# Altium schematic symbol library SDR_wt_SchLib.SchLib: 46 symbols
Pins are listed as number, name and electrical type; pins without a type are passive.

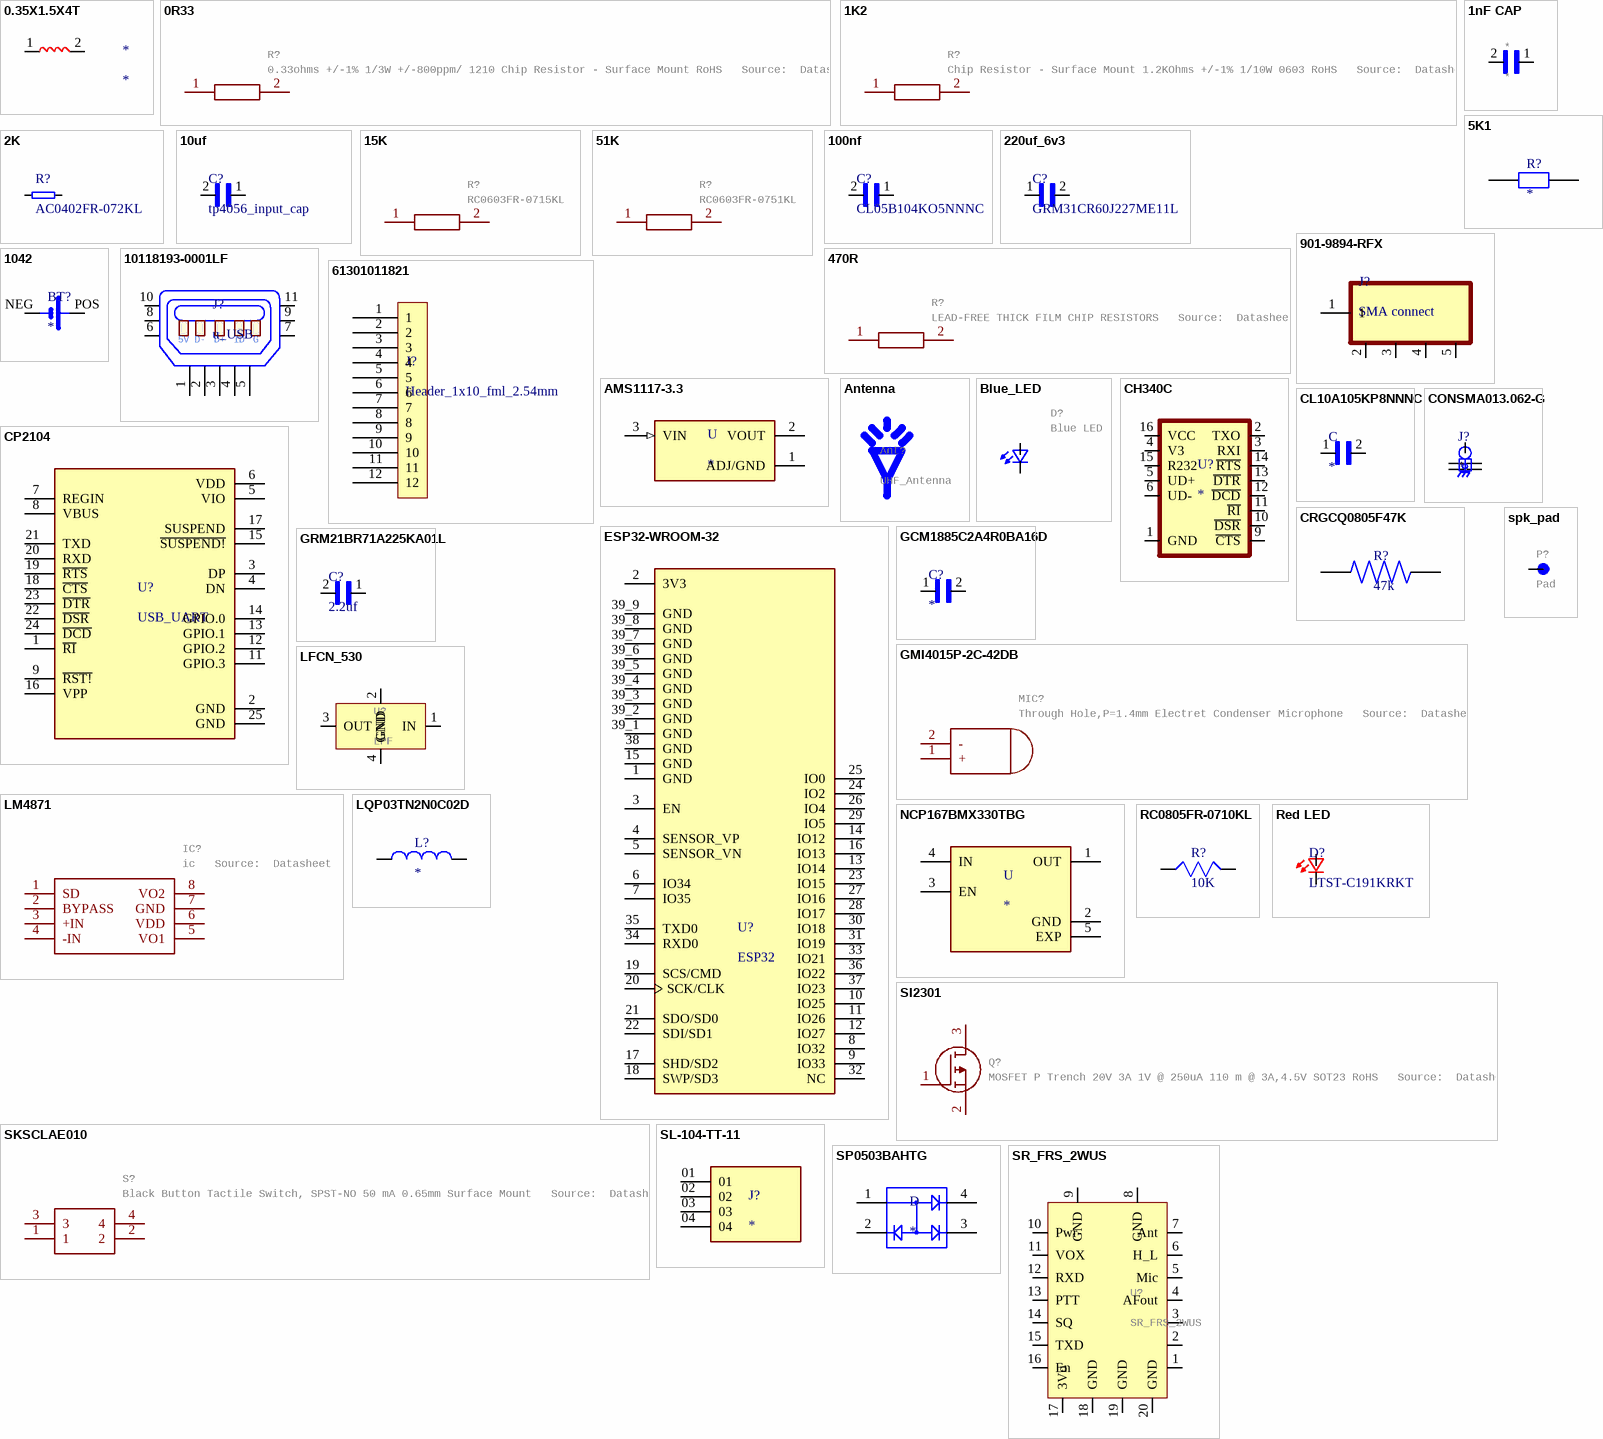
[diagram p0: symbols 0.35X1.5X4T to SR_FRS_2WUS]

## 0.35X1.5X4T
designator *
footprint 0.35X1.5X4T
pins: 1, 2

## 0R33
designator R?, comment 0.33ohms +/-1% 1/3W +/-800ppm/ 1210 Chip Resistor - Surface Mount RoHS   Source:  Datasheet
Manufacturer_Name: UNI-ROYAL(Uniroyal Elec); GateName_1: G$1; SymbolName_1: 1210W2F330LT5E; LibraryName: 1210W2F330LT5E; DeviceSetName: 1210W2F330LT5E; Package: RESC3126X65N; Manufacturer_Part_Number: 1210W2F330LT5E; Height: 0.65mm; LCSC Part #: C95211
footprint RESC3126X65N
pins: 1, 2

## 1K2
designator R?, comment Chip Resistor - Surface Mount 1.2KOhms +/-1% 1/10W 0603 RoHS   Source:  Datasheet
0603WAF1201T5E; Manufacturer_Name: UNI-ROYAL(Uniroyal Elec); GateName_1: G$1; SymbolName_1: 0603WAF1201T5E; LibraryName: 0603WAF1201T5E; DeviceSetName: 0603WAF1201T5E; Package: RESC1608X55N; Manufacturer_Part_Number: 0603WAF1201T5E; Height: 0.55mm; LCSC Part #: C22765
footprint RESC1608X55N 1K2
pins: 1, 2

## 1nF CAP
designator *
footprint 1nF CAP
pins: 1, 2

## 2K
designator R?, comment AC0402FR-072KL
AC Series 0402 0.063 W 2 kOhm Â±1% Â±100 ppm/Â°C SMT Thick Film Chip Resistor; Package: None; Price: None; Value: *; MP: AC0402FR-072KL; Availability: Unavailable; LCSC Part #: C144770
footprint RESC1005X40N
pins: 1, 2

## 5K1
designator R?
RES, THICK FILM, 5K1, 5%, 0.0625W, 0402; MP: RC0402JR-075K1L; Package: None; Price: None; Value: *; Availability: Unavailable; LCSC Part #: C105873
footprint RESC1005X40N - duplicate
pins: 1, 2

## 10uf
designator C?, comment tp4056_input_cap
10ÂµF Â±10% 10V Ceramic Capacitor X5R 0603 _1608 Metric_; MP: CL10A106KP8NNNC; MF: Samsung; SnapEDA_Link: https://www.snapeda.com/parts/CL10A106KP8NNNC/Samsung/view-part/3598152/?ref=snap; Price: None; Package: 0603 Samsung; Availability: Unavailable; Value: *; LCSC Part #: C19702
footprint CAPC1608X90N
pins: 1, 2

## 15K
designator R?, comment RC0603FR-0715KL
Manufacturer_Name: YAGEO (PHYCOMP); GateName_1: G$1; SymbolName_1: RC0603FR-0715KL; LibraryName: RC0603FR-0715KL; DeviceSetName: RC0603FR-0715KL; Package: RESC1608X55N; Manufacturer_Part_Number: RC0603FR-0715KL; Mouser_Part_Number: 603-RC0603FR-0715KL; Mouser_Price-Stock: https://www.mouser.co.uk/ProductDetail/Yageo/RC0603FR-0715KL?qs=VU8sRB4EgwBhsSCK0A%252BW%252Bw%3D%3D; Height: 0.55mm; LCSC Part #: C114661
footprint RESC1608X55N 15k
pins: 1, 2

## 51K
designator R?, comment RC0603FR-0751KL
Manufacturer_Name: YAGEO (PHYCOMP); GateName_1: G$1; SymbolName_1: RC0603FR-0715KL; LibraryName: RC0603FR-0715KL; DeviceSetName: RC0603FR-0715KL; Package: RESC1608X55N; Manufacturer_Part_Number: RC0603FR-0715KL; Mouser_Part_Number: 603-RC0603FR-0715KL; Mouser_Price-Stock: https://www.mouser.co.uk/ProductDetail/Yageo/RC0603FR-0715KL?qs=VU8sRB4EgwBhsSCK0A%252BW%252Bw%3D%3D; Height: 0.55mm; LCSC Part #: C107231
footprint RESC1608X55N - 51k
pins: 1, 2

## 100nf
designator C?, comment CL05B104KO5NNNC
0.1ÂµF Â±10% 16V Ceramic Capacitor X7R 0402 _1005 Metric_; MF: Samsung Electro-Mechanics; MP: CL05B104KO5NNNC; Price: None; SnapEDA_Link: https://www.snapeda.com/parts/CL05B104KO5NNNC/Samsung%20Electro-Mechanics/view-part/3598311/?ref=snap; Package: 0402 Samsung; Value: *; Availability: Unavailable; LCSC Part #: C1525
footprint CAPC1005X55N
pins: 1, 2

## 220uf_6v3
designator C?, comment GRM31CR60J227ME11L
SMD Multilayer Ceramic Capacitor, GRM Series, 220 F, 20%, X5R, 6.3 V, 1206 [3216 Metric]; MF: Murata Electronics; Digi-Key_Part_Number: 490-13970-1-ND; Package: 3216 Murata; MP: GRM31CR60J227ME11L; SnapEDA_Link: https://www.snapeda.com/parts/GRM31CR60J227ME11L/Murata%20Electronics%20North%20America/view-part/1756709/?ref=snap; Purchase-URL: https://pricing.snapeda.com/search/part/GRM31CR60J227ME11L/?ref=eda; Check_prices: https://www.snapeda.com/parts/GRM31CR60J227ME11L/Murata%20Electronics%20North%20America/view-part/1756709/?ref=eda; Value: *
footprint 220uf_3v3
pins: 1, 2

## 470R
designator R?, comment LEAD-FREE THICK FILM CHIP RESISTORS   Source:  Datasheet
Manufacturer_Name: Uniroyal Elec; GateName_1: G$1; SymbolName_1: 0402WGF4700TCE; LibraryName: 0402WGF4700TCE; DeviceSetName: 0402WGF4700TCE; Package: RESC1005X40N; Manufacturer_Part_Number: 0402WGF4700TCE; Height: 0.4mm; LCSC Part #: C25117
footprint RESC1005X40N
pins: 1, 2

## 901-9894-RFX
designator J?, comment SMA connect
SMA Connector Plug, Male Pin 50Ohm Through Hole, Right Angle Solder; MP: 901-9894-RFX; MF: Amphenol RF; Package: None; SnapEDA_Link: https://www.snapeda.com/parts/901-9894-RFX/Amphenol%20RF%20Division/view-part/34657/?ref=snap; Price: None; Value: *; Availability: Unavailable
footprint AMPHENOL_901-9894-RFX
pins: 1, 2, 3, 4, 5

## 1042
designator BT?
RF EMI Absorbing Sheet Q-ZorbÂ® Silicone Rubber Non-Conductive, Single Sided 24.000 _609.60mm_ X 24.000 _609.60mm_ X 0.094 _2.40mm_; MF: Laird Technologies; MP: 1042; Package: 0402 Laird Technologies; Value: *; Price: None; SnapEDA_Link: https://www.snapeda.com/parts/1042/Laird%20Technologies%20EMI/view-part/238870/?ref=snap; Availability: Unavailable; LCSC Part #: *
footprint BAT_1042
pins: NEG, POS

## 10118193-0001LF
designator J?, comment u_USB
CONN USB MICRO B RECPT SMT R/A; Manufacturer: Amphenol FCI; Manufacturer Part Number: 10118193-0001LF; Number of Terminals/Pins: 5; Gender: Female; Connector Type: USB,Receptacle; Number of Ports: 1; Current Rating: 1.8A; Insulation Resistance: 1GR; Max Voltage Rating (AC): 100V; Pitch: 0.65mm; Supplier 1: Digi-Key; Supplier Part Number 1: 609-4616-1-ND; RoHS: Yes; Category: USB Connectors; Stock 1: 41546; Pricing 1: 1=0.48000, 10=0.45100, 25=0.38680, 50=0.32860, 100=0.31580, 250=0.28360, 500=0.27070 (USD); Mount: Surface Mount,Horizontal; Contact Plating: Gold; Contact Material: Copper Alloy; Color: Black; Housing Material: Polymer; Min Operating Temperature: -55°C; Max Operating Temperature: 85°C; Termination: Solder; Packaging: Tape and Reel; Number of Contacts: 5; Orientation: Right Angle; Package Quantity: 1200; Voltage Rating: 100V; Features: Shielded; Length: 7.86mm; Depth: 5.67mm; Radiation Hardening: No; Flammability Rating: UL94 V-0; ComponentLink1URL: https://datasheet.ciiva.com/851/10118193-851106.pdf?src-supplier=Digi-Key; ComponentLink1Description: https://datasheet.ciiva.com/851/10118193-851106.pdf?src-supplier=Digi-Key; ComponentLink2URL: https://datasheet.ciiva.com/26853/getdatasheetpartid-418618-26853893.pdf?src-supplier=Verical; ComponentLink2Description: https://datasheet.ciiva.com/26853/getdatasheetpartid-418618-26853893.pdf?src-supplier=Verical; ComponentLink3URL: https://datasheet.ciiva.com/4598/10118193ac-197151-4598799.pdf?src-supplier=Mouser; ComponentLink3Description: https://datasheet.ciiva.com/4598/10118193ac-197151-4598799.pdf?src-supplier=Mouser; ComponentLink4URL: https://datasheet.ciiva.com/14802/10118193-0001lf-webpage-14802386.pdf?src-supplier=Arrow+Electronics; ComponentLink4Description: https://datasheet.ciiva.com/14802/10118193-0001lf-webpage-14802386.pdf?src-supplier=Arrow+Electronics; ComponentLink5URL: https://datasheet.ciiva.com/851/10118193-851107.pdf?src-supplier=Digi-Key; ComponentLink5Description: https://datasheet.ciiva.com/851/10118193-851107.pdf?src-supplier=Digi-Key; ComponentLink6URL: https://datasheet.ciiva.com/851/10118193-851108.pdf?src-supplier=Digi-Key; ComponentLink6Description: https://datasheet.ciiva.com/851/10118193-851108.pdf?src-supplier=Digi-Key; ComponentLink7URL: https://datasheet.ciiva.com/14618/70236827-14618887.pdf?src-supplier=Allied+Electronics; ComponentLink7Description: https://datasheet.ciiva.com/14618/70236827-14618887.pdf?src-supplier=Allied+Electronics
footprint u_USB
pins: 1 14, 2 15, 3 16, 4 17, 5 18, 6 19, 7          20, 8          21, 9          22, 10          23, 11          24
text: 5V; D-; D+; ID; G

## 61301011821
designator J?, comment Header_1x10_fml_2.54mm  (no BOM)
WURTH ELEKTRONIK - 61301011821 - PCB Receptacle, Board-to-Board, 2.54 mm, 1 Rows, 10 Contacts, Through Hole Straight, WR-PHD Series; Manufacturer: Wurth Electronics; Current Rating: 3A; Voltage Rating: 250V; Number of Positions: 10; Insulation: Insulated; Insulation Resistance: 1GR; Connector Type: Header,Socket; Pitch: 2.54mm; Manufacturer Part Number: 61301011821; RoHS: Yes; Stock 1: 1388; Pricing 1: 1=0.65000, 10=0.64100, 50=0.59100, 100=0.54200, 320=0.49300 (USD); Mount: Through Hole; Contact Plating: Gold; Contact Material: Copper Alloy,Copper; Color: Black; Housing Material: PBT; Min Operating Temperature: -40°C; Max Operating Temperature: 125°C; Number of Rows: 1; Package Quantity: 320; Packaging: Tray; Contact Gender: Female; Termination: Through Hole; Gender: Receptacle; Number of Contacts: 10; Length: 25.9mm; Width: 25.9mm; Height: 8.5mm; REACH SVHC: Unknown; Flammability Rating: UL94 V-0; Lead Free: Lead Free; ComponentLink1URL: https://datasheet.ciiva.com/755/6130xx11821-755848.pdf?src-supplier=Digi-Key; ComponentLink1Description: https://datasheet.ciiva.com/755/6130xx11821-755848.pdf?src-supplier=Digi-Key; ComponentLink2URL: https://datasheet.ciiva.com/8043/1320173-8043339.pdf?src-supplier=Element14; ComponentLink2Description: https://datasheet.ciiva.com/8043/1320173-8043339.pdf?src-supplier=Element14; ComponentLink3URL: https://datasheet.ciiva.com/48686/001088188-da-01-en-wr-phd-buchsenleiste-61301011821-48686454.pdf?src-supplier=Conrad; ComponentLink3Description: https://datasheet.ciiva.com/48686/001088188-da-01-en-wr-phd-buchsenleiste-61301011821-48686454.pdf?src-supplier=Conrad; Category: Headers and Wire Housings; Supplier 1: Digi-Key; Supplier Part Number 1: 732-2859-ND
footprint Header_1x12_fml_2.54mm
pins: 1, 2, 3, 4, 5, 6, 7, 8, 9, 10, 11, 12

## AMS1117-3.3
designator U
Sot223/Pkg 1-Amp 3.3-Volt Low Drop Out Voltage Regulatator; MP: AMS1117-3.3; MF: Advanced Monolithic Systems; Price: None; Package: None; Value: *; Availability: Unavailable; SnapEDA_Link: https://www.snapeda.com/parts/AMS1117-3.3/Advanced%20Monolithic%20Systems/view-part/53450/?ref=snap
footprint SOT229P700X180-4N
pins: 1 ADJ/GND (power), 2 VOUT, 3 VIN (in)

## Antenna
designator Ant?, comment UHF_Antenna  (mechanical)
footprint Antenna

## Blue_LED
designator D?, comment Blue LED Indication - Discrete 2.8V 0603 (1608 Metric)   Source:  Datasheet
Manufacturer_Name: Everlight; Manufacturer_Part_Number: 19-217/BHC-ZL1M2RY/3T; GateName_1: G$1; SymbolName_1: 19-217_BHC-ZL1M2RY_3T; LibraryName: 19-217_BHC-ZL1M2RY_3T; DeviceSetName: 19-217_BHC-ZL1M2RY_3T; Package: 19217BHCZL1M2RY3T; Height: 0.45mm; LCSC Part #: C72041
footprint 19217BHCZL1M2RY3T
pins: 1 K2, 2 A2

## CH340C
designator U?
USB to serial chip CH340; MF: WCH; MP: CH340C; Package: Package; Check_prices: https://www.snapeda.com/parts/CH340C/WCH/view-part/5428851/?ref=eda; Value: *; Price: None; Availability: Unavailable; SnapEDA_Link: https://www.snapeda.com/parts/CH340C/WCH/view-part/5428851/?ref=snap
footprint SO016
pins: 1 GND, 2 TXO, 3 RXI, 4 V3, 5 UD+, 6 UD-, 9 ~{CTS}, 10 ~{DSR}, 11 ~{RI}, 12 ~{DCD}, 13 ~{DTR}, 14 ~{RTS}, 15 R232, 16 VCC

## CL10A105KP8NNNC
designator C
1ÂµF Â±10% 10V Ceramic Capacitor X5R 0603 _1608 Metric_; MF: Samsung Electro-Mechanics; MP: CL10A105KP8NNNC; Package: 0603 Samsung Electro-Mechanics; Value: *; Price: None; SnapEDA_Link: https://www.snapeda.com/parts/CL10A105KP8NNNC/Samsung%20Electro-Mechanics/view-part/2784099/?ref=snap; Availability: Unavailable
footprint CAPC1608X100N
pins: 1, 2

## CONSMA013.062-G
designator J?
SMA MALE EDGE MOUNT FOR 0.031" THICK BOARD; MP: CONSMA013.062-G; Availability: Unavailable; Price: None; Package: None; Value: *
footprint LINX_CONSMA013.062-G
pins: 1, S1 2, S2 2, S3 2, S4 2

## CP2104
designator U?, comment USB_UART
USB Bridge, USB to UART USB 2.0 UART Interface 24-QFN _4x4_; MF: Silicon Labs; MP: CP2104; Price: None; Availability: Unavailable; SnapEDA_Link: https://www.snapeda.com/parts/CP2104/Silicon%20Labs/view-part/135877/?ref=snap; Value: *; Package: QFN-24 Silicon Labs
footprint QFN50P400X400X80-25N
pins: 1 ~{RI}, 2 GND, 3 DP, 4 DN, 5 VIO, 6 VDD, 7 REGIN, 8 VBUS, 9 ~{RST!}, 11 GPIO.3, 12 GPIO.2, 13 GPIO.1, 14 GPIO.0, 15 ~{SUSPEND!}, 16 VPP, 17 SUSPEND, 18 ~{CTS}, 19 ~{RTS}, 20 RXD, 21 TXD, 22 ~{DSR}, 23 ~{DTR}, 24 ~{DCD}, 25 GND

## CRGCQ0805F47K
designator R?, comment 47k
Fixed Resistor CRGCQ 0805 47K 1%; MP: CRGCQ0805F47K; Package: None; Price: None; Value: *; Availability: Unavailable
footprint R0805_47K
pins: 1, 2

## ESP32-WROOM-32
designator U?, comment ESP32
SMD MODULE, ESP32-WROOM-32, ESP32-D0WDQ6; Manufacturer: Espressif Systems; Frequency: 2.5GHz; Data Rate: 150Mbps; Sensitivity: -98dBm; Operating Supply Voltage: 3.6V; Supplier 1: Digi-Key; Supplier Part Number 1: 1904-1010-1-ND; Manufacturer Part Number: ESP32-WROOM-32; RoHS: No; Category: RF Receivers, Transceivers; Pricing 1: 1=3.80000 (USD); Mount: Surface Mount; Case/Package: SMD/SMT; Weight: 0.088185oz; Min Operating Temperature: -40°C; Max Operating Temperature: 85°C; Packaging: Cut Tape; Package Quantity: 550; ComponentLink1URL: https://datasheet.ciiva.com/70828/esp32-wroom-32-datasheet-en-70828769.pdf?src-supplier=Digi-Key; ComponentLink1Description: https://datasheet.ciiva.com/70828/esp32-wroom-32-datasheet-en-70828769.pdf?src-supplier=Digi-Key; ComponentLink2URL: https://datasheet.ciiva.com/69725/esp32-datasheet-en-69725253.pdf?src-supplier=Digi-Key; ComponentLink2Description: https://datasheet.ciiva.com/69725/esp32-datasheet-en-69725253.pdf?src-supplier=Digi-Key
footprint ESP32 foot
pins: 1 GND (power), 2 3V3 (power), 3 EN, 4 SENSOR_VP, 5 SENSOR_VN, 6 IO34, 7 IO35, 8 IO32, 9 IO33, 10 IO25, 11 IO26, 12 IO27, 13 IO14, 14 IO12, 15 GND (power), 16 IO13, 17 SHD/SD2, 18 SWP/SD3, 19 SCS/CMD, 20 SCK/CLK, 21 SDO/SD0, 22 SDI/SD1, 23 IO15, 24 IO2, 25 IO0, 26 IO4, 27 IO16, 28 IO17, 29 IO5, 30 IO18, 31 IO19, 32 NC, 33 IO21, 34 RXD0, 35 TXD0, 36 IO22, 37 IO23, 38 GND (power), 39_1 GND (power), 39_2 GND (power), 39_3 GND (power), 39_4 GND (power), 39_5 GND (power), 39_6 GND (power), 39_7 GND (power), 39_8 GND (power), 39_9 GND (power)

## GCM1885C2A4R0BA16D
designator C?
SMD Capacitor C0G(EIA) with Capacitance: 4.0pF Tol. 0.1pF. Rated Voltage: 100Vdc; MP: GCM1885C2A4R0BA16D; Package: None; Price: None; Value: *; Availability: Unavailable
footprint CAPC1608X90N
pins: 1, 2

## GMI4015P-2C-42DB
designator MIC?, comment Through Hole,P=1.4mm Electret Condenser Microphone   Source:  Datasheet
Manufacturer_Name: INGHAi; GateName_1: G$1; SymbolName_1: GMI4015P-2C-42DB; LibraryName: GMI4015P-2C-42db; DeviceSetName: GMI4015P-2C-42DB; Package: GMI4015P2C42db; Manufacturer_Part_Number: GMI4015P-2C-42db; Height: 1.85mm
footprint GMI4015P2C42db
pins: 1 +, 2 -

## GRM21BR71A225KA01L
designator C?, comment 2.2uf
SMT 0805 ceramic cap X7R 10V 2.2uF; MP: GRM21BR71A225KA01L; Package: None; Price: None; Value: *; Availability: Unavailable
footprint 2u2 cap 0805
pins: 1, 2

## LFCN_530
designator U?, comment LPF
footprint LTCC_1P6X3P2_MNC
pins: 1 IN, 2 GND, 3 OUT, 4 GND

## LM4871
designator IC?, comment ic   Source:  Datasheet
Manufacturer_Name: HGSEMI; GateName_1: G$1; SymbolName_1: LM4871; LibraryName: LM4871; DeviceSetName: LM4871; Package: SOIC127P600X165-8N; Manufacturer_Part_Number: LM4871; Height: 1.65mm
footprint NS8002
pins: 1 SD, 2 BYPASS, 3 +IN, 4 -IN, 5 VO1, 6 VDD, 7 GND, 8 VO2

## LQP03TN2N0C02D
designator L?
FIXED IND 2NH 600MA 150 MOHM SMD; MP: LQP03TN2N0C02D; Package: None; Price: None; Value: *; Availability: Unavailable
footprint INDC0603X33N
pins: 1, 2

## NCP167BMX330TBG
designator U
Linear Voltage Regulator IC 1 Output 700mA 4-XDFN _1x1_; MF: ON Semiconductor; MP: NCP167BMX330TBG; Digi-Key_Part_Number: NCP167BMX330TBGOSCT-ND; Package: XDFN-4 ON Semiconductor; SnapEDA_Link: https://www.snapeda.com/parts/NCP167BMX330TBG/ON%20Semiconductor/view-part/3624496/?ref=snap; Digi-Key_Purchase_URL: https://www.digikey.de/product-detail/en/on-semiconductor/NCP167BMX330TBG/NCP167BMX330TBGOSCT-ND/9749419?utm_source=snapeda&utm_medium=aggregator&utm_campaign=symbol; Value: *
footprint REG_NCP167BMX330TBG
pins: 1 OUT, 2 GND (power), 3 EN, 4 IN, 5 EXP (power)

## RC0805FR-0710KL
designator R?, comment 10K
RES SMD 10K OHM 1% 1/8W 0805; Manufacturer: Yageo; Manufacturer Part Number: RC0805FR-0710KL; Resistance: 10kR; Temperature Coefficient: 100ppm/°C; Power Rating: 125mW; Voltage Rating: 150V; Supplier 1: Digi-Key; Supplier Part Number 1: 311-10.0KCRCT-ND; RoHS: Yes; Category: Chip SMD Resistors; Stock 1: 15417266; Pricing 1: 1=0.10000, 10=0.03600, 100=0.01470, 1000=0.00660, 2500=0.00573 (USD); Case/Package: 0805; Case Code (Imperial): 0805; Case Code (Metric): 2012; Min Operating Temperature: -55°C; Max Operating Temperature: 155°C; Tolerance: 1%; Resistor Type: Thick Film; Packaging: Tape and Reel; Package Quantity: 1; Termination: SMD/SMT; Number of Terminations: 2; Max Power Dissipation: 125mW; Features: Moisture Resistant; Length: 2mm; Width: 0.049inch; Height: 0.024inch; Depth: 1.25mm; REACH SVHC: Unknown; Lead Free: Lead Free; Military Standard: Not; ComponentLink1URL: https://datasheet.ciiva.com/11808/0900766b8106beab-11808151.pdf?src-supplier=RSComponents; ComponentLink1Description: https://datasheet.ciiva.com/11808/0900766b8106beab-11808151.pdf?src-supplier=RSComponents; ComponentLink2URL: https://datasheet.ciiva.com/12669/rc0805-12669688.pdf?src-supplier=Mouser; ComponentLink2Description: https://datasheet.ciiva.com/12669/rc0805-12669688.pdf?src-supplier=Mouser; ComponentLink3URL: https://datasheet.ciiva.com/46447/444164-46447563.pdf?src-supplier=Element14; ComponentLink3Description: https://datasheet.ciiva.com/46447/444164-46447563.pdf?src-supplier=Element14; ComponentLink4URL: https://datasheet.ciiva.com/2456/pyu-r-int-thick-7-2456972.pdf?src-supplier=Digi-Key; ComponentLink4Description: https://datasheet.ciiva.com/2456/pyu-r-int-thick-7-2456972.pdf?src-supplier=Digi-Key; ComponentLink5URL: https://datasheet.ciiva.com/2456/pyu-r-int-thick-7-2456973.pdf?src-supplier=Digi-Key; ComponentLink5Description: https://datasheet.ciiva.com/2456/pyu-r-int-thick-7-2456973.pdf?src-supplier=Digi-Key; ComponentLink6URL: https://datasheet.ciiva.com/2456/pyu-r-int-thick-7-2456974.pdf?src-supplier=Digi-Key; ComponentLink6Description: https://datasheet.ciiva.com/2456/pyu-r-int-thick-7-2456974.pdf?src-supplier=Digi-Key; ComponentLink7URL: https://datasheet.ciiva.com/16747/rc0805-16747087.pdf?src-supplier=Future+Electronics; ComponentLink7Description: https://datasheet.ciiva.com/16747/rc0805-16747087.pdf?src-supplier=Future+Electronics
footprint R0805
pins: 1, 2

## Red LED
designator D?, comment LTST-C191KRKT
Red 631nm LED Indication - Discrete 2V 0603 _1608 Metric_; MF: Lite-On Inc.; Parameter 1: C125099; Value: *; Package: 0603 Lite-On; Digi-Key_Purchase_URL: https://www.digikey.in/product-detail/en/lite-on-inc/LTST-C191KRKT/160-1447-1-ND/386836?utm_source=snapeda&utm_medium=aggregator&utm_campaign=symbol; SnapEDA_Link: https://www.snapeda.com/parts/LTST-C191KRKT/Lite-On%20Inc./view-part/234319/?ref=snap; Digi-Key_Part_Number: 160-1447-1-ND; MP: LTST-C191KRKT
footprint 0603
pins: 1 K2, 2 A2

## SI2301
designator Q?, comment MOSFET P Trench 20V 3A 1V @ 250uA 110 m @ 3A,4.5V SOT23 RoHS   Source:  Datasheet
Manufacturer_Name: PUOLOP; GateName_1: G$1; SymbolName_1: SI2301; LibraryName: SI2301; DeviceSetName: SI2301; Package: SOT95P240X120-3N; Manufacturer_Part_Number: SI2301; Height: 1.2mm; LCSC Part #: C306861
footprint SOT95P240X120-3N
pins: 1 G, 2 S (power), 3 D

## SKSCLAE010
designator S?, comment Black Button Tactile Switch, SPST-NO 50 mA 0.65mm Surface Mount   Source:  Datasheet
Manufacturer_Name: ALPS Electric; GateName_1: G$1; SymbolName_1: SKSCLAE010; LibraryName: SKSCLAE010; DeviceSetName: SKSCLAE010; Package: SKSCLAE010; Manufacturer_Part_Number: SKSCLAE010; Mouser_Part_Number: 688-SKSCLAE010; Mouser_Price-Stock: https://www.mouser.com/Search/Refine.aspx?Keyword=688-SKSCLAE010; Height: 1.4mm
footprint SKSCLAE010
pins: 1, 2, 3, 4

## SL-104-TT-11
designator J?  (no BOM)
MP: SL-104-TT-11; Package: None; Price: None; Value: *; Availability: Unavailable
footprint SAMTEC_SL-104-TT-11
pins: 01, 02, 03, 04

## SP0503BAHTG
designator D
8.5V Clamp Ipp Tvs Diode Surface Mount SOT-143-4; MP: SP0503BAHTG; MF: Littelfuse Inc.; Package: SOT-143 Littelfuse; SnapEDA_Link: https://www.snapeda.com/parts/SP0503BAHTG/Littelfuse%20Inc./view-part/214427/?ref=snap; Digi-Key_Purchase_URL: https://www.digikey.com/product-detail/en/littelfuse-inc/SP0503BAHTG/F2715CT-ND/1154322?utm_source=snapeda&utm_medium=aggregator&utm_campaign=symbol; Value: *; Digi-Key_Part_Number: F2715CT-ND
footprint TVS_SOT143
pins: 1, 2, 3, 4

## spk_pad
designator P?, comment Pad  (no BOM)
footprint pad_spkr
pins: 1

## SR_FRS_2WUS
designator U?
footprint SR_FRS_2WUS
pins: 1 19, 2, 3, 4 AFout, 5 Mic, 6 H_L, 7 Ant, 8 GND, 9 GND, 10 Pwr, 11 VOX, 12 RXD, 13 PTT, 14 SQ, 15 TXD, 16 En, 17 3Vo, 18 GND, 19 GND, 20 GND

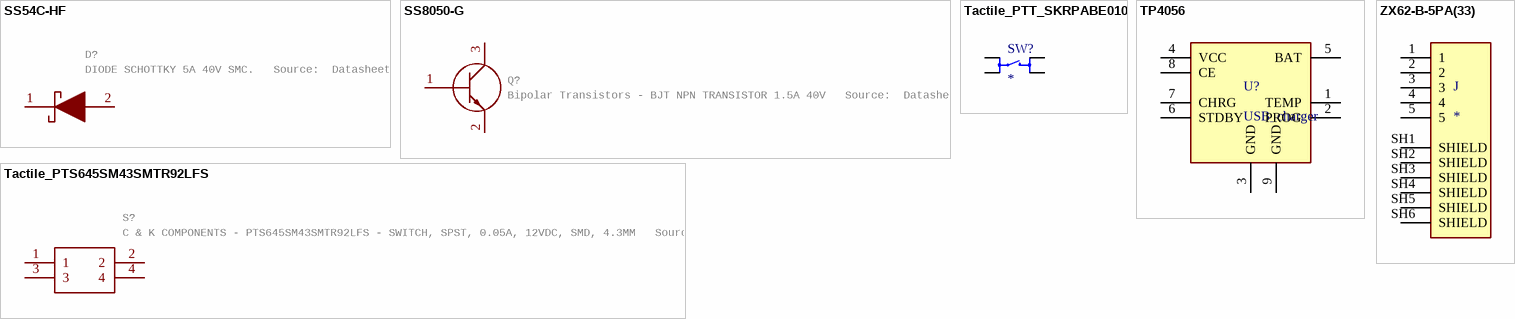
[diagram p1: symbols SS54C-HF to ZX62-B-5PA(33)]

## SS54C-HF
designator D?, comment DIODE SCHOTTKY 5A 40V SMC.   Source:  Datasheet
Manufacturer_Name: Comchip Technology; GateName_1: G$1; SymbolName_1: SS54C-HF; LibraryName: SS54C-HF; DeviceSetName: SS54C-HF; Package: DIOM7859X239N; Manufacturer_Part_Number: SS54C-HF; Mouser_Part_Number: 750-SS54C-HF; Mouser_Price-Stock: https://www.mouser.co.uk/ProductDetail/Comchip-Technology/SS54C-HF?qs=GBLSl2AkirvDP3hY2YYGnA%3D%3D; Height: 2.39mm; LCSC Part #: C16103
footprint DIOM7859X239N
pins: 1 K, 2 A

## SS8050-G
designator Q?, comment Bipolar Transistors - BJT NPN TRANSISTOR 1.5A 40V   Source:  Datasheet
Manufacturer_Name: Comchip Technology; GateName_1: G$1; SymbolName_1: SS8050-G; LibraryName: SS8050-G; DeviceSetName: SS8050-G; Package: SOT95P240X115-3N; Manufacturer_Part_Number: SS8050-G; Mouser_Part_Number: 750-SS8050-G; Mouser_Price-Stock: https://www.mouser.co.uk/ProductDetail/Comchip-Technology/SS8050-G?qs=LLUE9lz1YbcHg%252BWLMAtcrQ%3D%3D; Arrow_Part_Number: SS8050-G; Arrow_Price-Stock: https://www.arrow.com/en/products/ss8050-g/comchip-technology; Height: 1.15mm
footprint SOT95P240X115-3N
pins: 1 B, 2 E, 3 C

## Tactile_PTS645SM43SMTR92LFS
designator S?, comment C & K COMPONENTS - PTS645SM43SMTR92LFS - SWITCH, SPST, 0.05A, 12VDC, SMD, 4.3MM   Source:  Datasheet
GateName_1: G$1; SymbolName_1: PTS645SM43SMTR92LFS; LibraryName: PTS645SM43SMTR92LFS; DeviceSetName: PTS645SM43SMTR92LFS; Package: PTS645(SMT); Manufacturer_Name: C & K COMPONENTS; Manufacturer_Part_Number: PTS645SM43SMTR92LFS; Mouser_Part_Number: 611-PTS645SM43SMTR92; Mouser_Price-Stock: https://www.mouser.co.uk/ProductDetail/CK/PTS645SM43SMTR92LFS?qs=FESYatJ8odKPktxv6ncfWg%3D%3D; Arrow_Part_Number: PTS645SM43SMTR92LFS; Arrow_Price-Stock: https://www.arrow.com/en/products/pts645sm43smtr92lfs/ck; Height: mm
footprint PTS645(SMT)
pins: 1, 2, 3, 4

## Tactile_PTT_SKRPABE010
designator SW?
Switch Tactile N.O. SPST Button J-Bend 0.05A 16VDC 1.57N SMD Automotive T/R; MF: ALPS; MP: SKRPABE010; Availability: Unavailable; Price: None; SnapEDA_Link: https://www.snapeda.com/parts/SKRPABE010/ALPS/view-part/652544/?ref=snap; Value: *; Package: None
footprint SKRPABE010
pins: P$1, P$2, P$3, P$4

## TP4056
designator U?, comment USB_charger
Complete single cell Li-Ion battery with a constant current / constant voltage linear charger; MP: TP4056; MF: NanJing Top Power ASIC Corp.; Package: Package Analog Devices; Value: *; SnapEDA_Link: https://www.snapeda.com/parts/TP4056%20/NanJing%20Top%20Power%20ASIC%20Corp./view-part/2888426/?ref=snap; Price: None; Availability: Unavailable; LCSC Part #: C16581
footprint TP4056 (USB_charger)
pins: 1 TEMP, 2 PROG, 3 GND, 4 VCC, 5 BAT, 6 STDBY, 7 CHRG, 8 CE, 9 GND

## ZX62-B-5PA(33)
designator J
USB - micro B USB 2.0 Receptacle Connector 5 Position Surface Mount, Right Angle; MP: ZX62-B-5PA_33_; MF: Hirose; Price: None; Package: None; Value: *; Availability: Unavailable; SnapEDA_Link: https://www.snapeda.com/parts/ZX62-B-5PA%2833%29/Hirose%20Electric%20Co%20Ltd/view-part/524781/?ref=snap
footprint HRS_ZX62-B-5PA(33)
pins: 1, 2, 3, 4, 5, SH1 SHIELD, SH2 SHIELD, SH3 SHIELD, SH4 SHIELD, SH5 SHIELD, SH6 SHIELD